# EAGLE library part CD4072 (library jack_libs)
4 Input 2 Gate OR Logic IC
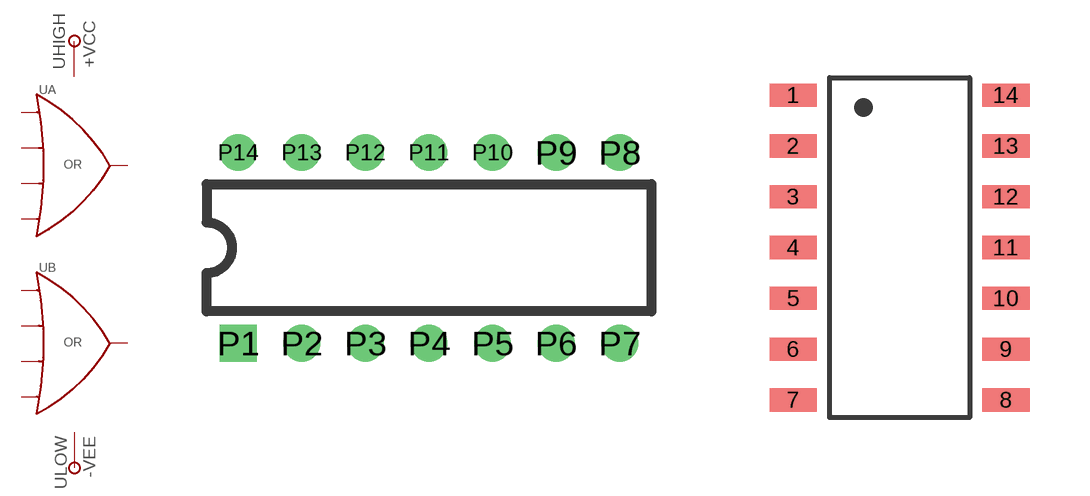
[diagram p4: symbol with the pads of DIP-14; footprints DIP-14, SOIC14]

Designator prefix U; gates A=LOGIC_OR_GATE_4IN B=LOGIC_OR_GATE_4IN HIGH=LOGIC_VCC LOW=LOGIC_VEE

## CD4072N  [DIP-14]
P1  A:OUT
P2  A:IN_A
P3  A:IN_B
P4  A:IN_C
P5  A:IN_D
P7  LOW:P$1
P9  B:IN_A
P10  B:IN_B
P11  B:IN_C
P12  B:IN_D
P13  B:OUT
P14  HIGH:P$1

## CD4072D  [SOIC14]
1  A:OUT
2  A:IN_A
3  A:IN_B
4  A:IN_C
5  A:IN_D
7  LOW:P$1
9  B:IN_A
10  B:IN_B
11  B:IN_C
12  B:IN_D
13  B:OUT
14  HIGH:P$1

## Footprint DIP-14 (pad centres in mm)
drill 0.965 square: P1 -7.62,-3.81
drill 0.965: P2 -5.08,-3.81; P3 -2.54,-3.81; P4 0,-3.81; P5 2.54,-3.81; P6 5.08,-3.81; P7 7.62,-3.81; P8 7.62,3.81; P9 5.08,3.81; P10 2.54,3.81; P11 0,3.81; P12 -2.54,3.81; P13 -5.08,3.81; P14 -7.62,3.81

## Footprint SOIC14 (pad centres in mm)
smd 1.18 x 0.58: 1 -2.66,3.81; 2 -2.66,2.54; 3 -2.66,1.27; 4 -2.66,0; 5 -2.66,-1.27; 6 -2.66,-2.54; 7 -2.66,-3.81; 8 2.66,-3.81; 9 2.66,-2.54; 10 2.66,-1.27; 11 2.66,0; 12 2.66,1.27; 13 2.66,2.54; 14 2.66,3.81